# Altium integrated library Analog Devices Data Converters Analog-to-Digital Converters.IntLib: 2400 symbols (part 123 of 338)
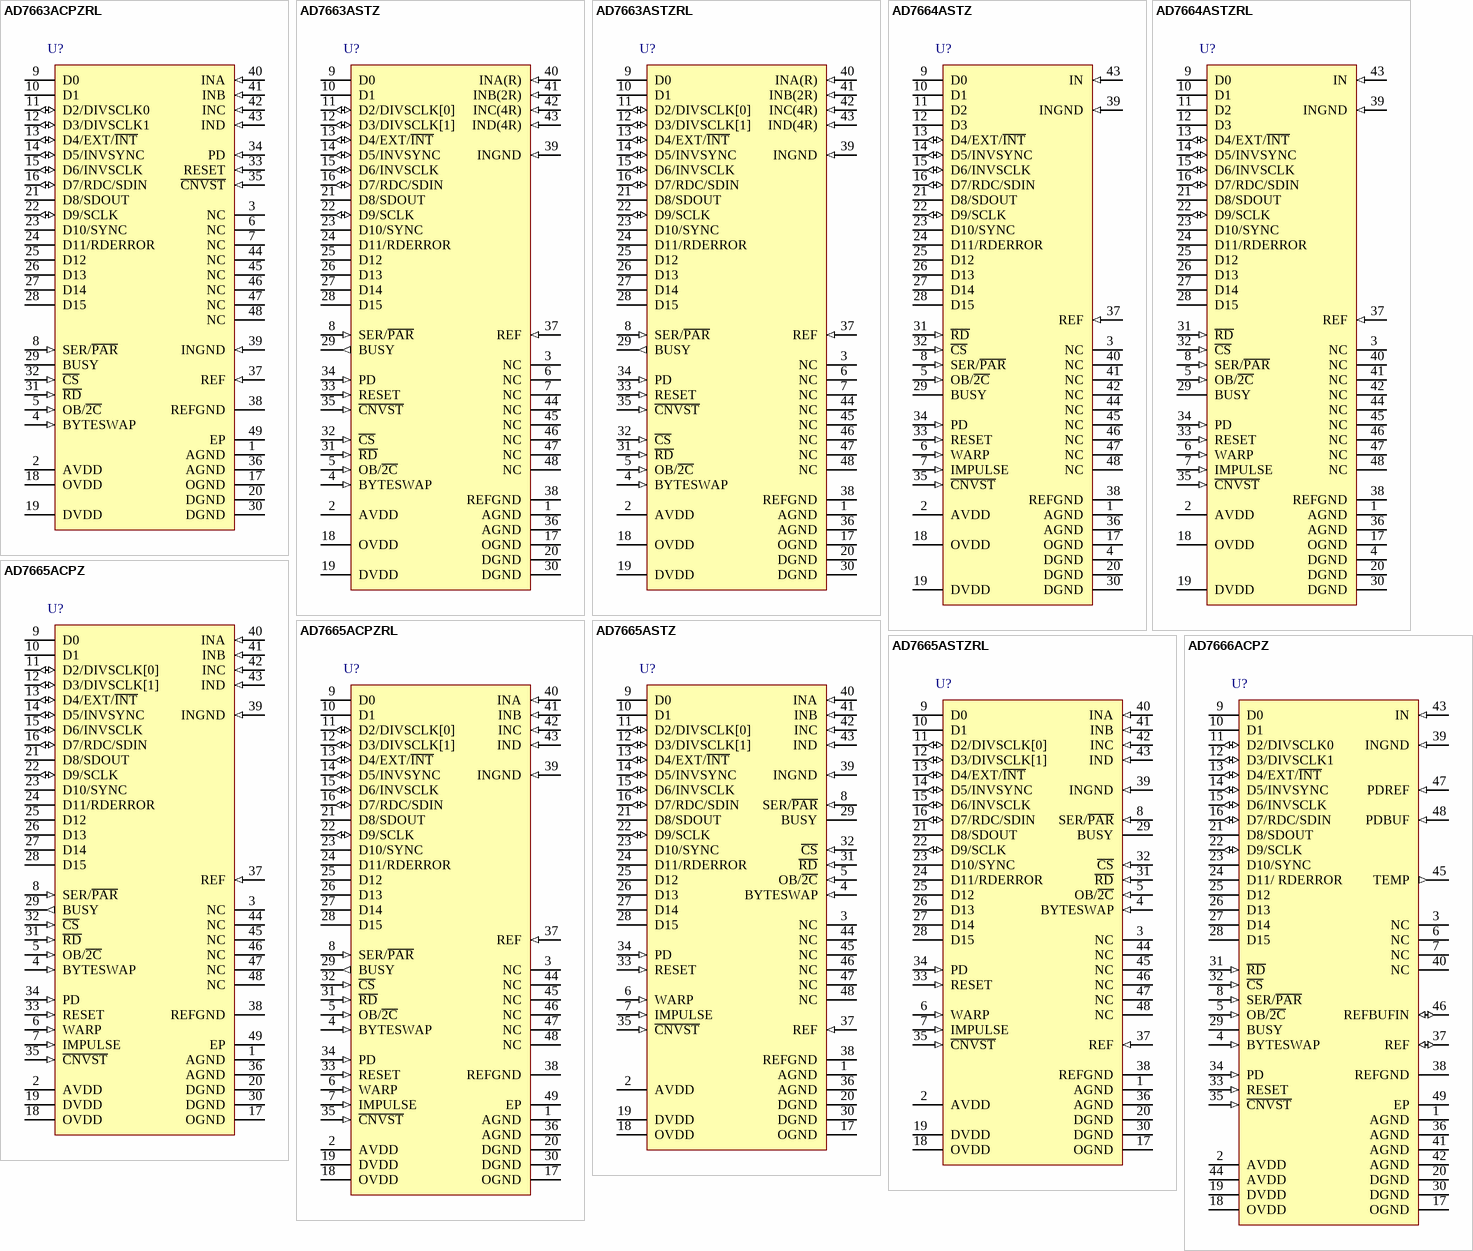
[diagram p325: symbols AD7663ACPZRL to AD7666ACPZ]

## AD7664ASTZ
designator U?
Single 16-Bit PulSAR Analog-to-Digital Converter with Parallel, Serial, SPI Interface, Unipolar CMOS, 570KSPS, -40 to +85 degC, ST-48, Pb-Free, Tray; Part Number: AD7664; Manufacturer: Analog Devices; Resolution (Bits): 16; Channels: 1; Throughput Rate (SPS): 570K; Interface: Par, Ser, SPI; DatasheetVersion: Rev.E; PackageVersion: revA; PackageReference: ST-48; PackageDescription: 48-Pin Thin Quad Flat Pack 0.5 mm Pitch; RoHS: Y; Packing: Tray; Mounting Technology: Surface Mount; ComponentLink1Description: Manufacturer URL; ComponentLink1URL: http://www.analog.com/en/index.html; ComponentLink2Description: Datasheet; ComponentLink2URL: http://www.analog.com/static/imported-files/data_sheets/AD7664.pdf; ComponentLink3Description: Package Specification; ComponentLink3URL: http://www.analog.com/static/imported-files/packages/PKG_PDF/LQFP%28ST%29/ST_48.pdf; ComponentLink4Description: Product URL; ComponentLink4URL: http://www.analog.com/en/analog-to-digital-converters/ad-converters/ad7664/products/product.html
footprint ST-48_N (Thin QFP, 48-Leads, Body 7x7mm, Pitch 0.5mm, IPC Medium Density)
footprint ST-48_L (Thin QFP, 48-Leads, Body 7x7mm, Pitch 0.5mm, IPC High Density)
footprint ST-48_M (Thin QFP, 48-Leads, Body 7x7mm, Pitch 0.5mm, IPC Low Density)
pins: 1 AGND (power) "Analog Power Ground Pin.", 2 AVDD (power) "Input Analog Power Pins. Nominally 5 V.", 3 NC "No Connect.", 4 DGND (power) "Must Be Tied to the Ground Where DVDD Is Referred.", 5 OB/~{2C} (in) "Straight Binary/Binary Twos Complement. When OB/2\C\ is HIGH, the digital output is straight binary; when LOW, the MSB is inverted resulting in a twos complement output from its internal shift register.", 6 WARP (in) "Mode Selection. When HIGH and IMPULSE LOW, this input selects the fastest mode, the maximum throughput is achievable, and a minimum conversion rate must be applied in order to guarantee full specified accuracy. When LOW, (See Datasheet)", 7 IMPULSE (in) "Mode Selection. When HIGH and WARP LOW, this input selects a reduced power mode. In this mode, the power dissipation is approximately proportional to the sampling rate.", 8 SER/~{PAR} (in) "Serial/Parallel Selection Input. When LOW, the Parallel Port is selected; when HIGH, the Serial Interface Mode is selected and some bits of the DATA bus are used as a Serial Port.", 9 D0 (hiz) "Bit 0 of the Parallel Port Data Output Bus. These pins are always outputs, regardless of the state of SER/P\A\R\.", 10 D1 (hiz) "Bit 1 of the Parallel Port Data Output Bus. These pins are always outputs, regardless of the state of SER/P\A\R\.", 11 D2 (hiz) "Bit 2 of the Parallel Port Data Output Bus. These pins are always outputs, regardless of the state of SER/P\A\R\.", 12 D3 (hiz) "Bit 3 of the Parallel Port Data Output Bus. These pins are always outputs, regardless of the state of SER/P\A\R\.", 13 D4/EXT/~{INT} (io) "When SER/P\A\R\ is LOW, this output is used as Bit 4 of the Parallel Port Data Output Bus.When SER/P\A\R\ is HIGH, this input, part of the Serial Port, is used as a digital select input for choosing the internal or an (See Datasheet)", 14 D5/INVSYNC (io) "When SER/P\A\R\ is LOW, this output is used as Bit 5 of the Parallel Port Data Output Bus.When SER/P\A\R\ is HIGH, this input, part of the Serial Port, is used to select the active state of the SYNC signal. It is active in (See Datasheet)", 15 D6/INVSCLK (io) "When SER/P\A\R\ is LOW, this output is used as Bit 6 of the Parallel Port Data Output Bus.When SER/P\A\R\ is HIGH, this input, part of the Serial Port, is used to invert the SCLK signal.It is active in both Master and Slave (See Datasheet)", 16 D7/RDC/SDIN (io) "When SER/P\A\R\ is LOW, this output is used as Bit 7 of the Parallel Port Data Output Bus.When SER/P\A\R\ is HIGH, this input, part of the Serial Port, is used as either an external data input or a Read Mode selection input (See Datasheet)", 17 OGND (power) "Input/Output Interface Digital Power Ground.", 18 OVDD (power) "Input/Output Interface Digital Power. Nominally at the same supply as the supply of the host interface (5 V or 3 V).", 19 DVDD (power) "Digital Power. Nominally at 5 V.", 20 DGND (power) "Digital Power Ground.", 21 D8/SDOUT (hiz) "When SER/P\A\R\ is LOW, this output is used as Bit 8 of the Parallel Port Data Output Bus.When SER/P\A\R\ is HIGH, this output, part of the Serial Port, is used as a serial data output synchronized to SCLK. Conversion (See Datasheet)", 22 D9/SCLK (io) "When SER/P\A\R\ is LOW, this output is used as Bit 9 of the Parallel Port Data Output Bus.When SER/P\A\R\ is HIGH, this pin, part of the Serial Port, is used as a serial data clock input or output, dependent upon the logic (See Datasheet)", 23 D10/SYNC (hiz) "When SER/P\A\R\ is LOW, this output is used as the Bit 10 of the Parallel Port Data Output Bus.When SER/P\A\R\ is HIGH, this output, part of the Serial Port, is used as a digital output frame synchronization for use with the (See Datasheet)", 24 D11/RDERROR (hiz) "When SER/P\A\R\ is LOW, this output is used as Bit 11 of the Parallel Port Data Output Bus.When SER/P\A\R\ is HIGH and EXT/INT is HIGH, this output, part of the Serial Port, is used as an incomplete read error flag. In Slave (See Datasheet)", 25 D12 (hiz) "Bit 12 of the Parallel Port Data Output Bus. These pins are always outputs regardless of the state of SER/P\A\R\.", 26 D13 (hiz) "Bit 13 of the Parallel Port Data Output Bus. These pins are always outputs regardless of the state of SER/P\A\R\.", 27 D14 (hiz) "Bit 14 of the Parallel Port Data Output Bus. These pins are always outputs regardless of the state of SER/P\A\R\.", 28 D15 (hiz) "Bit 15 of the Parallel Port Data Output Bus. These pins are always outputs regardless of the state of SER/P\A\R\.", 29 BUSY (hiz) "Busy Output. Transitions HIGH when a conversion is started and remains HIGH until the conversion is complete and the data is latched into the on-chip shift register. The falling edge of BUSY could be used as a data-ready (See Datasheet)", 30 DGND (power) "Must Be Tied to Digital Ground.", 31 ~{RD} (in) "Read Data. When C\S\ and R\D\ are both LOW, the interface parallel or serial output bus is enabled.", 32 ~{CS} (in) "Chip Select. When C\S\ and R\D\ are both LOW, the interface parallel or serial output bus is enabled. C\S\ is also used to gate the external clock.", 33 RESET (in) "Reset Input. When set to a logic HIGH, reset the AD7664. Current conversion if any is aborted.If not used, this pin could be tied to DGND.", 34 PD (in) "Power-Down Input. When set to a logic HIGH, power consumption is reduced and conversions are inhibited after the current one is completed.", 35 ~{CNVST} (in) "Start Conversion. A falling edge on C\N\V\S\T\ puts the internal sample-and-hold into the hold state and initiates a conversion. In Impulse Mode (IMPULSE HIGH and WARP LOW), if C\N\V\S\T\ is held LOW when the acquisition (See Datasheet)", 36 AGND (power) "Must Be Tied to Analog Ground.", 37 REF (in) "Reference Input Voltage.", 38 REFGND (power) "Reference Input Analog Ground.", 39 INGND (in) "Analog Input Ground.", 40 NC "No Connect.", 41 NC "No Connect.", 42 NC "No Connect.", 43 IN (in) "Primary Analog Input with a Range of 0 V to VREF.", 44 NC "No Connect.", 45 NC "No Connect.", 46 NC "No Connect.", 47 NC "No Connect.", 48 NC "No Connect."